# EAGLE library part ATSAMD21G18 (library AR_mcu)
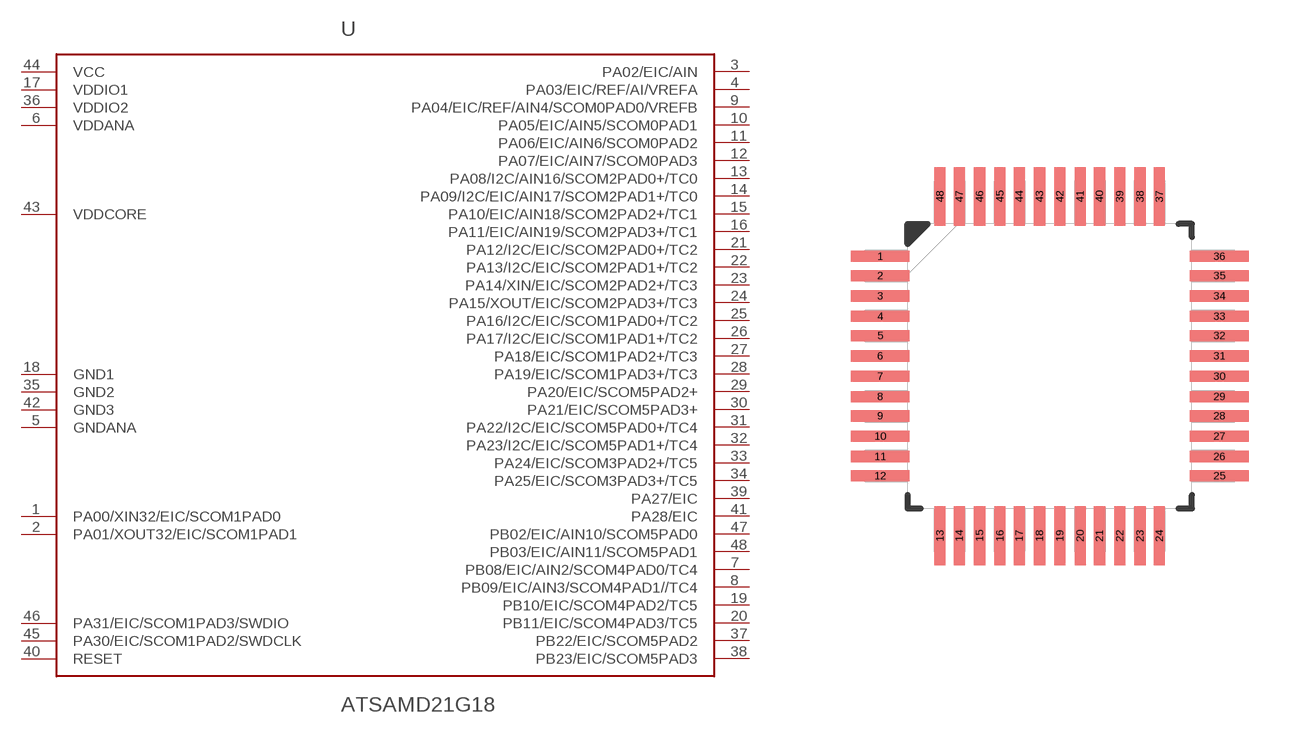
[diagram p2: symbol with the pads of 48-TQFP; footprint 48-TQFP]

Designator prefix U

## ATSAMD21G18  [48-TQFP]
1  PA00/XIN32/EIC/SCOM1PAD0
2  PA01/XOUT32/EIC/SCOM1PAD1
3  PA02/EIC/AIN
4  PA03/EIC/REF/AI/VREFA
5  GNDANA
6  VDDANA
7  PB08/EIC/AIN2/SCOM4PAD0/TC4
8  PB09/EIC/AIN3/SCOM4PAD1//TC4
9  PA04/EIC/REF/AIN4/SCOM0PAD0/VREFB
10  PA05/EIC/AIN5/SCOM0PAD1
11  PA06/EIC/AIN6/SCOM0PAD2
12  PA07/EIC/AIN7/SCOM0PAD3
13  PA08/I2C/AIN16/SCOM2PAD0+/TC0
14  PA09/I2C/EIC/AIN17/SCOM2PAD1+/TC0
15  PA10/EIC/AIN18/SCOM2PAD2+/TC1
16  PA11/EIC/AIN19/SCOM2PAD3+/TC1
17  VDDIO1
18  GND1
19  PB10/EIC/SCOM4PAD2/TC5
20  PB11/EIC/SCOM4PAD3/TC5
21  PA12/I2C/EIC/SCOM2PAD0+/TC2
22  PA13/I2C/EIC/SCOM2PAD1+/TC2
23  PA14/XIN/EIC/SCOM2PAD2+/TC3
24  PA15/XOUT/EIC/SCOM2PAD3+/TC3
25  PA16/I2C/EIC/SCOM1PAD0+/TC2
26  PA17/I2C/EIC/SCOM1PAD1+/TC2
27  PA18/EIC/SCOM1PAD2+/TC3
28  PA19/EIC/SCOM1PAD3+/TC3
29  PA20/EIC/SCOM5PAD2+
30  PA21/EIC/SCOM5PAD3+
31  PA22/I2C/EIC/SCOM5PAD0+/TC4
32  PA23/I2C/EIC/SCOM5PAD1+/TC4
33  PA24/EIC/SCOM3PAD2+/TC5
34  PA25/EIC/SCOM3PAD3+/TC5
35  GND2
36  VDDIO2
37  PB22/EIC/SCOM5PAD2
38  PB23/EIC/SCOM5PAD3
39  PA27/EIC
40  RESET
41  PA28/EIC
42  GND3
43  VDDCORE
44  VCC
45  PA30/EIC/SCOM1PAD2/SWDCLK
46  PA31/EIC/SCOM1PAD3/SWDIO
47  PB02/EIC/AIN10/SCOM5PAD0
48  PB03/EIC/AIN11/SCOM5PAD1

## Footprint 48-TQFP (pad centres in mm)
smd 1.473 x 0.279: 1 -4.242,2.743; 2 -4.242,2.261; 3 -4.242,1.753; 4 -4.242,1.245; 5 -4.242,0.762; 6 -4.242,0.254; 7 -4.242,-0.254; 8 -4.242,-0.762; 9 -4.242,-1.245; 10 -4.242,-1.753; 11 -4.242,-2.261; 12 -4.242,-2.743; 25 4.242,-2.743; 26 4.242,-2.261; 27 4.242,-1.753; 28 4.242,-1.245; 29 4.242,-0.762; 30 4.242,-0.254; 31 4.242,0.254; 32 4.242,0.762; 33 4.242,1.245; 34 4.242,1.753; 35 4.242,2.261; 36 4.242,2.743
smd 0.279 x 1.473: 13 -2.743,-4.242; 14 -2.261,-4.242; 15 -1.753,-4.242; 16 -1.245,-4.242; 17 -0.762,-4.242; 18 -0.254,-4.242; 19 0.254,-4.242; 20 0.762,-4.242; 21 1.245,-4.242; 22 1.753,-4.242; 23 2.261,-4.242; 24 2.743,-4.242; 37 2.743,4.242; 38 2.261,4.242; 39 1.753,4.242; 40 1.245,4.242; 41 0.762,4.242; 42 0.254,4.242; 43 -0.254,4.242; 44 -0.762,4.242; 45 -1.245,4.242; 46 -1.753,4.242; 47 -2.261,4.242; 48 -2.743,4.242